# EAGLE library part XF2M-2215-1A (library XF2M-2215-1A)
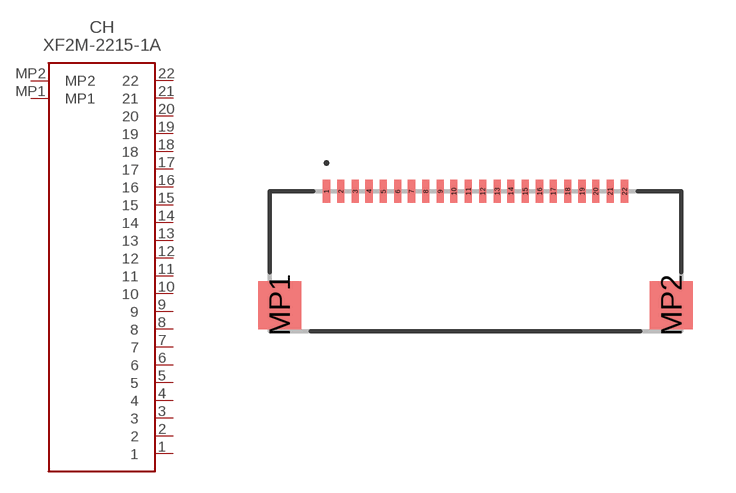
[diagram p0: symbol with the pads of XF2M-2215-1A; footprint XF2M-2215-1A]

Designator prefix CH

## XF2M-2215-1A  [XF2M-2215-1A]
1  1
2  2
3  3
4  4
5  5
6  6
7  7
8  8
9  9
10  10
11  11
12  12
13  13
14  14
15  15
16  16
17  17
18  18
19  19
20  20
21  21
22  22
MP1  MP1
MP2  MP2

## Footprint XF2M-2215-1A (pad centres in mm)
smd 0.254 x 0.813: 1 -5.258,4.928; 2 -4.75,4.928; 3 -4.242,4.928; 4 -3.759,4.928; 5 -3.251,4.928; 6 -2.743,4.928; 7 -2.261,4.928; 8 -1.753,4.928; 9 -1.245,4.928; 10 -0.762,4.928; 11 -0.254,4.928; 12 0.254,4.928; 13 0.762,4.928; 14 1.245,4.928; 15 1.753,4.928; 16 2.261,4.928; 17 2.743,4.928; 18 3.251,4.928; 19 3.759,4.928; 20 4.242,4.928; 21 4.75,4.928; 22 5.258,4.928
smd 1.524 x 1.702: MP1 -6.909,0.914; MP2 6.909,0.914